# Altium footprint library Connector_Wire.PcbLib: 290 footprints (part 9 of 19)
Each footprint in its own frame and in the unit in brackets; x right, y up, seen from the top. Pads: shape width x height; smd on the part's side, far side on the other; paste and mask are expansions set on the pad; w line width, h text height; cw(c..) or ccw(c..) is an arc to the next point about the centre after c.
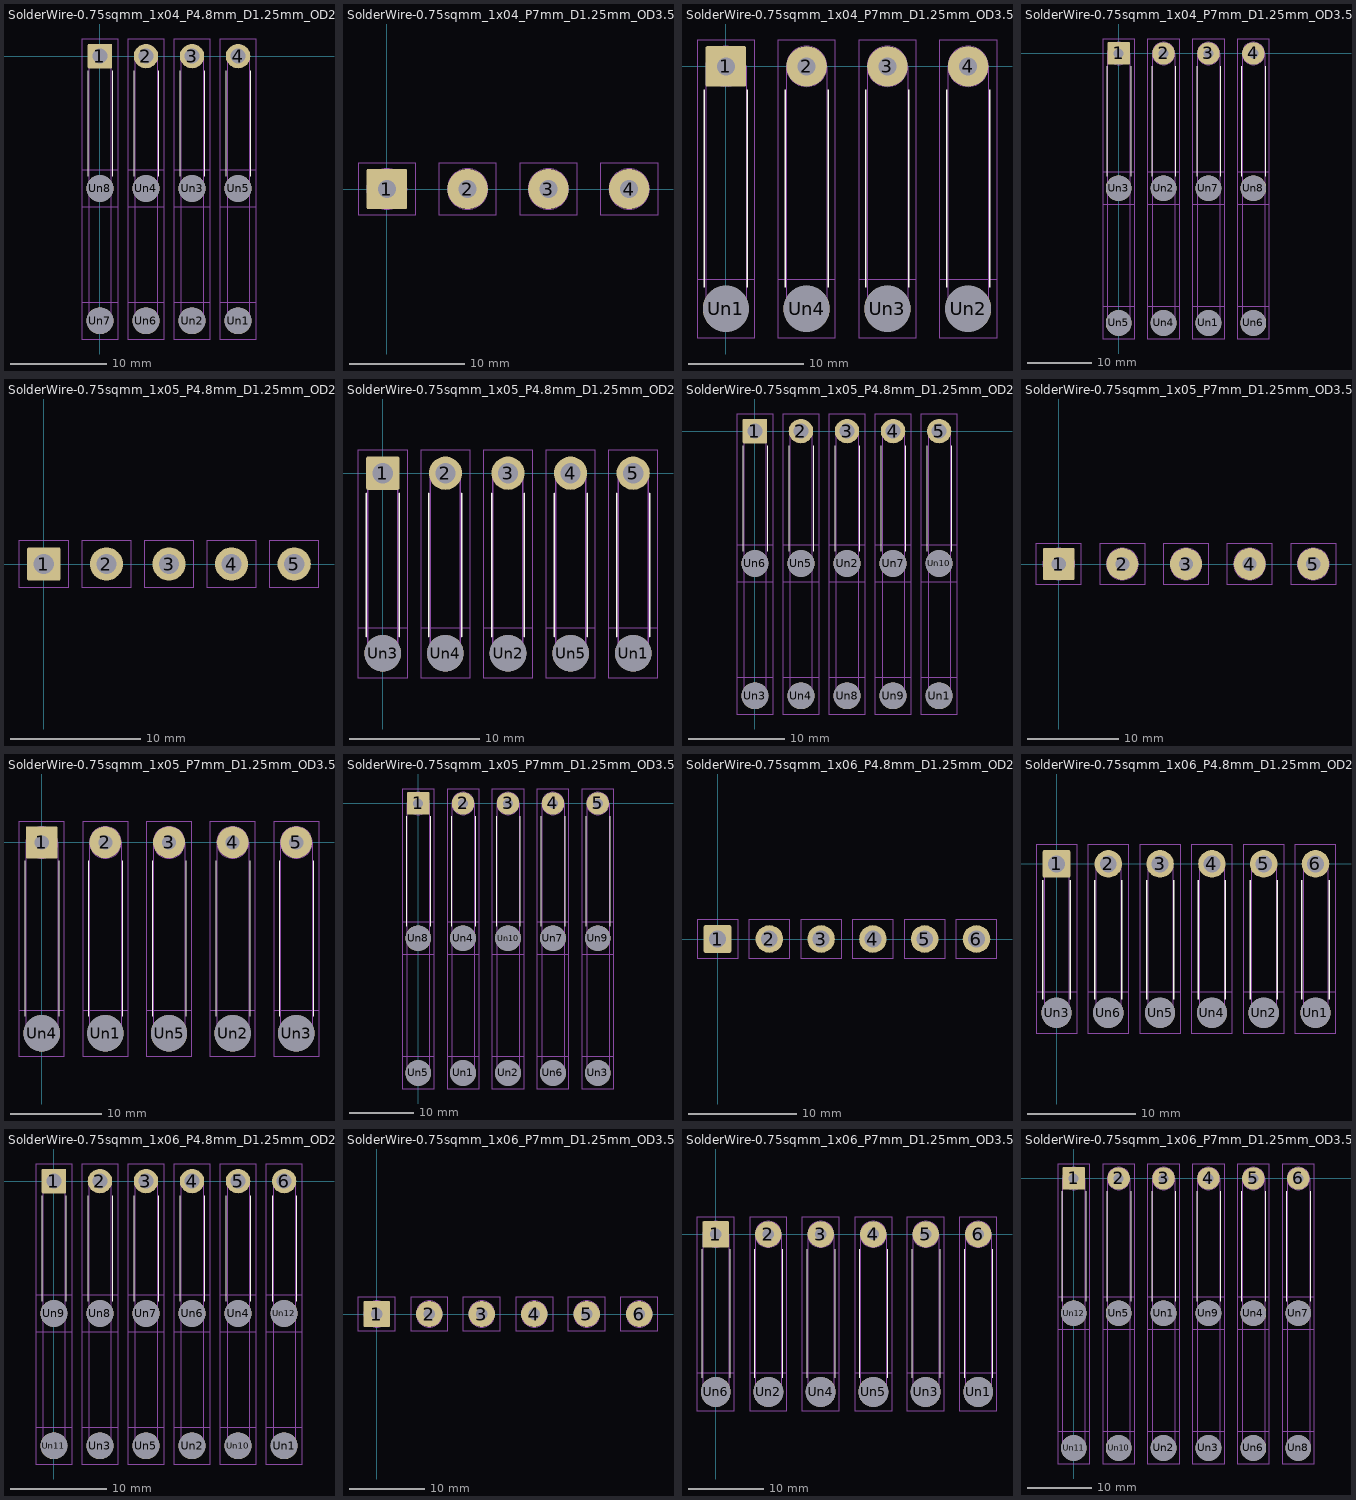
[diagram p8: the footprints below, top view; thin cyan lines are the x and y axes]

## SolderWire-0.75sqmm_1x04_P4.8mm_D1.25mm_OD2.3mm_Relief2x [mm]
pads (12):
  rrect10% 2.55x2.55 hole 1.55: 1(0,0)
  round 2.55 hole 1.55: 2(4.8,0) 3(9.6,0) 4(14.4,0)
  round 2.8 hole 2.8: Un1(14.4,-27.6) Un2(9.6,-27.6) Un3(9.6,-13.8) Un4(4.8,-13.8) Un5(14.4,-13.8) Un6(4.8,-27.6) Un7(0,-27.6) Un8(0,-13.8)
F.SilkS:
  lines w0.12: -1.26,-12.54 -1.26,-1.535 ; 1.26,-12.54 1.26,-1.535 ; 3.54,-12.54 3.54,-1.535 ; 6.06,-12.54 6.06,-1.535 ; 8.34,-12.54 8.34,-1.535 ; 10.86,-12.54 10.86,-1.535 ; 13.14,-12.54 13.14,-1.535 ; 15.66,-12.54 15.66,-1.535
B.SilkS:
  lines w0.12: -1.26,-26.34 -1.26,-15.06 ; 1.26,-26.34 1.26,-15.06 ; 3.54,-26.34 3.54,-15.06 ; 6.06,-26.34 6.06,-15.06 ; 8.34,-26.34 8.34,-15.06 ; 10.86,-26.34 10.86,-15.06 ; 13.14,-26.34 13.14,-15.06 ; 15.66,-26.34 15.66,-15.06
B.CrtYd:
  lines w0.05: -1.9,-29.5 1.9,-29.5 1.9,-11.9 -1.9,-11.9 -1.9,-29.5 ; 2.9,-29.5 6.7,-29.5 6.7,-11.9 2.9,-11.9 2.9,-29.5 ; 7.7,-29.5 11.5,-29.5 11.5,-11.9 7.7,-11.9 7.7,-29.5 ; 12.5,-29.5 12.5,-11.9 16.3,-11.9 16.3,-29.5 12.5,-29.5
F.CrtYd:
  lines w0.05: -1.9,-29.5 1.9,-29.5 1.9,-25.7 -1.9,-25.7 -1.9,-29.5 ; -1.9,-15.7 -1.9,1.78 1.9,1.78 1.9,-15.7 -1.9,-15.7 ; 2.9,-29.5 2.9,-25.7 6.7,-25.7 6.7,-29.5 2.9,-29.5 ; 2.9,-15.7 6.7,-15.7 6.7,1.78 2.9,1.78 2.9,-15.7 ; 7.7,-29.5 7.7,-25.7 11.5,-25.7 11.5,-29.5 7.7,-29.5 ; 7.7,-15.7 11.5,-15.7 11.5,1.78 7.7,1.78 7.7,-15.7 ; 12.5,-29.5 16.3,-29.5 16.3,-25.7 12.5,-25.7 12.5,-29.5 ; 12.5,-15.7 16.3,-15.7 16.3,1.78 12.5,1.78 12.5,-15.7
B.Fab:
  circle w0.1: c14.4,-27.6 r1.15
  circle w0.1: c0,-13.8 r1.15
  circle w0.1: c4.8,-13.8 r1.15
  circle w0.1: c14.4,-13.8 r1.15
  circle w0.1: c4.8,-27.6 r1.15
  circle w0.1: c9.6,-13.8 r1.15
  circle w0.1: c0,-27.6 r1.15
  circle w0.1: c9.6,-27.6 r1.15
  lines w0.1: -1.15,-27.6 -1.15,-13.8 ; 1.15,-27.6 1.15,-13.8 ; 3.65,-27.6 3.65,-13.8 ; 5.95,-27.6 5.95,-13.8 ; 8.45,-27.6 8.45,-13.8 ; 10.75,-27.6 10.75,-13.8 ; 13.25,-27.6 13.25,-13.8 ; 15.55,-27.6 15.55,-13.8
F.Fab:
  circle w0.1: c0,0 r1.15
  circle w0.1: c14.4,-27.6 r1.15
  circle w0.1: c0,-13.8 r1.15
  circle w0.1: c0,-27.6 r1.15
  circle w0.1: c9.6,-27.6 r1.15
  circle w0.1: c4.8,-13.8 r1.15
  circle w0.1: c4.8,0 r1.15
  circle w0.1: c14.4,0 r1.15
  circle w0.1: c4.8,-27.6 r1.15
  circle w0.1: c9.6,-13.8 r1.15
  circle w0.1: c14.4,-13.8 r1.15
  circle w0.1: c9.6,0 r1.15
  lines w0.1: -1.15,-13.8 -1.15,0 ; 1.15,-13.8 1.15,0 ; 3.65,-13.8 3.65,0 ; 5.95,-13.8 5.95,0 ; 8.45,-13.8 8.45,0 ; 10.75,-13.8 10.75,0 ; 13.25,-13.8 13.25,0 ; 15.55,-13.8 15.55,0
  text "'.Designator'" at 8.04,-10.947 h1

## SolderWire-0.75sqmm_1x04_P7mm_D1.25mm_OD3.5mm [mm]
pads (4):
  rrect7% 3.5x3.5 hole 1.55: 1(0,0)
  round 3.5 hole 1.55: 2(7,0) 3(14,0) 4(21,0)
F.CrtYd:
  lines w0.05: -2.5,-2.25 2.5,-2.25 2.5,2.25 -2.5,2.25 -2.5,-2.25 ; 4.5,-2.25 4.5,2.25 9.5,2.25 9.5,-2.25 4.5,-2.25 ; 11.5,-2.25 11.5,2.25 16.5,2.25 16.5,-2.25 11.5,-2.25 ; 18.5,-2.25 23.5,-2.25 23.5,2.25 18.5,2.25 18.5,-2.25
F.Fab:
  circle w0.1: c14,0 r1.75
  circle w0.1: c21,0 r1.75
  circle w0.1: c0,0 r1.75
  circle w0.1: c7,0 r1.75
  text "'.Designator'" at 11.34,-4.047 h1

## SolderWire-0.75sqmm_1x04_P7mm_D1.25mm_OD3.5mm_Relief [mm]
pads (8):
  rrect7% 3.5x3.5 hole 1.55: 1(0,0)
  round 3.5 hole 1.55: 2(7,0) 3(14,0) 4(21,0)
  round 4 hole 4: Un1(0,-21) Un2(21,-21) Un3(14,-21) Un4(7,-21)
F.SilkS:
  lines w0.12: -1.86,-19.14 -1.86,-2.01 ; 1.86,-19.14 1.86,-2.01 ; 5.14,-19.14 5.14,-2.01 ; 8.86,-19.14 8.86,-2.01 ; 12.14,-19.14 12.14,-2.01 ; 15.86,-19.14 15.86,-2.01 ; 19.14,-19.14 19.14,-2.01 ; 22.86,-19.14 22.86,-2.01
B.CrtYd:
  lines w0.05: -2.5,-23.5 -2.5,-18.5 2.5,-18.5 2.5,-23.5 -2.5,-23.5 ; 4.5,-23.5 4.5,-18.5 9.5,-18.5 9.5,-23.5 4.5,-23.5 ; 11.5,-23.5 16.5,-23.5 16.5,-18.5 11.5,-18.5 11.5,-23.5 ; 18.5,-23.5 23.5,-23.5 23.5,-18.5 18.5,-18.5 18.5,-23.5
F.CrtYd:
  lines w0.05: -2.5,-23.5 -2.5,2.25 2.5,2.25 2.5,-23.5 -2.5,-23.5 ; 4.5,-23.5 4.5,2.25 9.5,2.25 9.5,-23.5 4.5,-23.5 ; 11.5,-23.5 16.5,-23.5 16.5,2.25 11.5,2.25 11.5,-23.5 ; 18.5,-23.5 18.5,2.25 23.5,2.25 23.5,-23.5 18.5,-23.5
F.Fab:
  circle w0.1: c14,0 r1.75
  circle w0.1: c21,0 r1.75
  circle w0.1: c0,-21 r1.75
  circle w0.1: c21,-21 r1.75
  circle w0.1: c7,0 r1.75
  circle w0.1: c14,-21 r1.75
  circle w0.1: c7,-21 r1.75
  circle w0.1: c0,0 r1.75
  lines w0.1: -1.75,-21 -1.75,0 ; 1.75,-21 1.75,0 ; 5.25,-21 5.25,0 ; 8.75,-21 8.75,0 ; 12.25,-21 12.25,0 ; 15.75,-21 15.75,0 ; 19.25,-21 19.25,0 ; 22.75,-21 22.75,0
  text "'.Designator'" at 11.34,-14.547 h1

## SolderWire-0.75sqmm_1x04_P7mm_D1.25mm_OD3.5mm_Relief2x [mm]
pads (12):
  rrect7% 3.5x3.5 hole 1.55: 1(0,0)
  round 3.5 hole 1.55: 2(7,0) 3(14,0) 4(21,0)
  round 4 hole 4: Un1(14,-42) Un2(7,-21) Un3(0,-21) Un4(7,-42) Un5(0,-42) Un6(21,-42) Un7(14,-21) Un8(21,-21)
F.SilkS:
  lines w0.12: -1.86,-19.14 -1.86,-2.01 ; 1.86,-19.14 1.86,-2.01 ; 5.14,-19.14 5.14,-2.01 ; 8.86,-19.14 8.86,-2.01 ; 12.14,-19.14 12.14,-2.01 ; 15.86,-19.14 15.86,-2.01 ; 19.14,-19.14 19.14,-2.01 ; 22.86,-19.14 22.86,-2.01
B.SilkS:
  lines w0.12: -1.86,-40.14 -1.86,-22.86 ; 1.86,-40.14 1.86,-22.86 ; 5.14,-40.14 5.14,-22.86 ; 8.86,-40.14 8.86,-22.86 ; 12.14,-40.14 12.14,-22.86 ; 15.86,-40.14 15.86,-22.86 ; 19.14,-40.14 19.14,-22.86 ; 22.86,-40.14 22.86,-22.86
B.CrtYd:
  lines w0.05: -2.5,-44.5 -2.5,-18.5 2.5,-18.5 2.5,-44.5 -2.5,-44.5 ; 4.5,-44.5 4.5,-18.5 9.5,-18.5 9.5,-44.5 4.5,-44.5 ; 11.5,-44.5 11.5,-18.5 16.5,-18.5 16.5,-44.5 11.5,-44.5 ; 18.5,-44.5 18.5,-18.5 23.5,-18.5 23.5,-44.5 18.5,-44.5
F.CrtYd:
  lines w0.05: -2.5,-44.5 2.5,-44.5 2.5,-39.5 -2.5,-39.5 -2.5,-44.5 ; -2.5,-23.5 2.5,-23.5 2.5,2.25 -2.5,2.25 -2.5,-23.5 ; 4.5,-44.5 9.5,-44.5 9.5,-39.5 4.5,-39.5 4.5,-44.5 ; 4.5,-23.5 4.5,2.25 9.5,2.25 9.5,-23.5 4.5,-23.5 ; 11.5,-44.5 11.5,-39.5 16.5,-39.5 16.5,-44.5 11.5,-44.5 ; 11.5,-23.5 16.5,-23.5 16.5,2.25 11.5,2.25 11.5,-23.5 ; 18.5,-44.5 23.5,-44.5 23.5,-39.5 18.5,-39.5 18.5,-44.5 ; 18.5,-23.5 18.5,2.25 23.5,2.25 23.5,-23.5 18.5,-23.5
B.Fab:
  circle w0.1: c21,-21 r1.75
  circle w0.1: c7,-21 r1.75
  circle w0.1: c0,-21 r1.75
  circle w0.1: c0,-42 r1.75
  circle w0.1: c14,-42 r1.75
  circle w0.1: c7,-42 r1.75
  circle w0.1: c21,-42 r1.75
  circle w0.1: c14,-21 r1.75
  lines w0.1: -1.75,-42 -1.75,-21 ; 1.75,-42 1.75,-21 ; 5.25,-42 5.25,-21 ; 8.75,-42 8.75,-21 ; 12.25,-42 12.25,-21 ; 15.75,-42 15.75,-21 ; 19.25,-42 19.25,-21 ; 22.75,-42 22.75,-21
F.Fab:
  circle w0.1: c21,-21 r1.75
  circle w0.1: c7,-42 r1.75
  circle w0.1: c21,-42 r1.75
  circle w0.1: c14,-21 r1.75
  circle w0.1: c0,0 r1.75
  circle w0.1: c14,0 r1.75
  circle w0.1: c21,0 r1.75
  circle w0.1: c0,-42 r1.75
  circle w0.1: c7,-21 r1.75
  circle w0.1: c14,-42 r1.75
  circle w0.1: c7,0 r1.75
  circle w0.1: c0,-21 r1.75
  lines w0.1: -1.75,-21 -1.75,0 ; 1.75,-21 1.75,0 ; 5.25,-21 5.25,0 ; 8.75,-21 8.75,0 ; 12.25,-21 12.25,0 ; 15.75,-21 15.75,0 ; 19.25,-21 19.25,0 ; 22.75,-21 22.75,0
  text "'.Designator'" at 11.34,-14.547 h1

## SolderWire-0.75sqmm_1x05_P4.8mm_D1.25mm_OD2.3mm [mm]
pads (5):
  rrect10% 2.55x2.55 hole 1.55: 1(0,0)
  round 2.55 hole 1.55: 2(4.8,0) 3(9.6,0) 4(14.4,0) 5(19.2,0)
F.CrtYd:
  lines w0.05: -1.9,-1.78 1.9,-1.78 1.9,1.78 -1.9,1.78 -1.9,-1.78 ; 2.9,-1.78 6.7,-1.78 6.7,1.78 2.9,1.78 2.9,-1.78 ; 7.7,-1.78 11.5,-1.78 11.5,1.78 7.7,1.78 7.7,-1.78 ; 12.5,-1.78 12.5,1.78 16.3,1.78 16.3,-1.78 12.5,-1.78 ; 17.3,-1.78 21.1,-1.78 21.1,1.78 17.3,1.78 17.3,-1.78
F.Fab:
  circle w0.1: c0,0 r1.15
  circle w0.1: c19.2,0 r1.15
  circle w0.1: c9.6,0 r1.15
  circle w0.1: c4.8,0 r1.15
  circle w0.1: c14.4,0 r1.15
  text "'.Designator'" at 7.25,-0.49 h0.58

## SolderWire-0.75sqmm_1x05_P4.8mm_D1.25mm_OD2.3mm_Relief [mm]
pads (10):
  rrect10% 2.55x2.55 hole 1.55: 1(0,0)
  round 2.55 hole 1.55: 2(4.8,0) 3(9.6,0) 4(14.4,0) 5(19.2,0)
  round 2.8 hole 2.8: Un1(19.2,-13.8) Un2(9.6,-13.8) Un3(0,-13.8) Un4(4.8,-13.8) Un5(14.4,-13.8)
F.SilkS:
  lines w0.12: -1.26,-12.54 -1.26,-1.535 ; 1.26,-12.54 1.26,-1.535 ; 3.54,-12.54 3.54,-1.535 ; 6.06,-12.54 6.06,-1.535 ; 8.34,-12.54 8.34,-1.535 ; 10.86,-12.54 10.86,-1.535 ; 13.14,-12.54 13.14,-1.535 ; 15.66,-12.54 15.66,-1.535 ; 17.94,-12.54 17.94,-1.535 ; 20.46,-12.54 20.46,-1.535
B.CrtYd:
  lines w0.05: -1.9,-15.7 -1.9,-11.9 1.9,-11.9 1.9,-15.7 -1.9,-15.7 ; 2.9,-15.7 6.7,-15.7 6.7,-11.9 2.9,-11.9 2.9,-15.7 ; 7.7,-15.7 11.5,-15.7 11.5,-11.9 7.7,-11.9 7.7,-15.7 ; 12.5,-15.7 12.5,-11.9 16.3,-11.9 16.3,-15.7 12.5,-15.7 ; 17.3,-15.7 17.3,-11.9 21.1,-11.9 21.1,-15.7 17.3,-15.7
F.CrtYd:
  lines w0.05: -1.9,-15.7 1.9,-15.7 1.9,1.78 -1.9,1.78 -1.9,-15.7 ; 2.9,-15.7 6.7,-15.7 6.7,1.78 2.9,1.78 2.9,-15.7 ; 7.7,-15.7 7.7,1.78 11.5,1.78 11.5,-15.7 7.7,-15.7 ; 12.5,-15.7 12.5,1.78 16.3,1.78 16.3,-15.7 12.5,-15.7 ; 17.3,-15.7 21.1,-15.7 21.1,1.78 17.3,1.78 17.3,-15.7
F.Fab:
  circle w0.1: c9.6,0 r1.15
  circle w0.1: c9.6,-13.8 r1.15
  circle w0.1: c4.8,0 r1.15
  circle w0.1: c14.4,-13.8 r1.15
  circle w0.1: c0,0 r1.15
  circle w0.1: c4.8,-13.8 r1.15
  circle w0.1: c19.2,-13.8 r1.15
  circle w0.1: c0,-13.8 r1.15
  circle w0.1: c14.4,0 r1.15
  circle w0.1: c19.2,0 r1.15
  lines w0.1: -1.15,-13.8 -1.15,0 ; 1.15,-13.8 1.15,0 ; 3.65,-13.8 3.65,0 ; 5.95,-13.8 5.95,0 ; 8.45,-13.8 8.45,0 ; 10.75,-13.8 10.75,0 ; 13.25,-13.8 13.25,0 ; 15.55,-13.8 15.55,0 ; 18.05,-13.8 18.05,0 ; 20.35,-13.8 20.35,0
  text "'.Designator'" at 10.44,-10.947 h1

## SolderWire-0.75sqmm_1x05_P4.8mm_D1.25mm_OD2.3mm_Relief2x [mm]
pads (15):
  rrect10% 2.55x2.55 hole 1.55: 1(0,0)
  round 2.55 hole 1.55: 2(4.8,0) 3(9.6,0) 4(14.4,0) 5(19.2,0)
  round 2.8 hole 2.8: Un1(19.2,-27.6) Un2(9.6,-13.8) Un3(0,-27.6) Un4(4.8,-27.6) Un5(4.8,-13.8) Un6(0,-13.8) Un7(14.4,-13.8) Un8(9.6,-27.6) Un9(14.4,-27.6) Un10(19.2,-13.8)
F.SilkS:
  lines w0.12: -1.26,-12.54 -1.26,-1.535 ; 1.26,-12.54 1.26,-1.535 ; 3.54,-12.54 3.54,-1.535 ; 6.06,-12.54 6.06,-1.535 ; 8.34,-12.54 8.34,-1.535 ; 10.86,-12.54 10.86,-1.535 ; 13.14,-12.54 13.14,-1.535 ; 15.66,-12.54 15.66,-1.535 ; 17.94,-12.54 17.94,-1.535 ; 20.46,-12.54 20.46,-1.535
B.SilkS:
  lines w0.12: -1.26,-26.34 -1.26,-15.06 ; 1.26,-26.34 1.26,-15.06 ; 3.54,-26.34 3.54,-15.06 ; 6.06,-26.34 6.06,-15.06 ; 8.34,-26.34 8.34,-15.06 ; 10.86,-26.34 10.86,-15.06 ; 13.14,-26.34 13.14,-15.06 ; 15.66,-26.34 15.66,-15.06 ; 17.94,-26.34 17.94,-15.06 ; 20.46,-26.34 20.46,-15.06
B.CrtYd:
  lines w0.05: -1.9,-29.5 1.9,-29.5 1.9,-11.9 -1.9,-11.9 -1.9,-29.5 ; 2.9,-29.5 2.9,-11.9 6.7,-11.9 6.7,-29.5 2.9,-29.5 ; 7.7,-29.5 11.5,-29.5 11.5,-11.9 7.7,-11.9 7.7,-29.5 ; 12.5,-29.5 12.5,-11.9 16.3,-11.9 16.3,-29.5 12.5,-29.5 ; 17.3,-29.5 21.1,-29.5 21.1,-11.9 17.3,-11.9 17.3,-29.5
F.CrtYd:
  lines w0.05: -1.9,-29.5 1.9,-29.5 1.9,-25.7 -1.9,-25.7 -1.9,-29.5 ; -1.9,-15.7 -1.9,1.78 1.9,1.78 1.9,-15.7 -1.9,-15.7 ; 2.9,-29.5 2.9,-25.7 6.7,-25.7 6.7,-29.5 2.9,-29.5 ; 2.9,-15.7 2.9,1.78 6.7,1.78 6.7,-15.7 2.9,-15.7 ; 7.7,-29.5 11.5,-29.5 11.5,-25.7 7.7,-25.7 7.7,-29.5 ; 7.7,-15.7 7.7,1.78 11.5,1.78 11.5,-15.7 7.7,-15.7 ; 12.5,-29.5 16.3,-29.5 16.3,-25.7 12.5,-25.7 12.5,-29.5 ; 12.5,-15.7 16.3,-15.7 16.3,1.78 12.5,1.78 12.5,-15.7 ; 17.3,-29.5 21.1,-29.5 21.1,-25.7 17.3,-25.7 17.3,-29.5 ; 17.3,-15.7 17.3,1.78 21.1,1.78 21.1,-15.7 17.3,-15.7
B.Fab:
  circle w0.1: c0,-27.6 r1.15
  circle w0.1: c19.2,-13.8 r1.15
  circle w0.1: c4.8,-13.8 r1.15
  circle w0.1: c19.2,-27.6 r1.15
  circle w0.1: c14.4,-27.6 r1.15
  circle w0.1: c0,-13.8 r1.15
  circle w0.1: c9.6,-27.6 r1.15
  circle w0.1: c9.6,-13.8 r1.15
  circle w0.1: c14.4,-13.8 r1.15
  circle w0.1: c4.8,-27.6 r1.15
  lines w0.1: -1.15,-27.6 -1.15,-13.8 ; 1.15,-27.6 1.15,-13.8 ; 3.65,-27.6 3.65,-13.8 ; 5.95,-27.6 5.95,-13.8 ; 8.45,-27.6 8.45,-13.8 ; 10.75,-27.6 10.75,-13.8 ; 13.25,-27.6 13.25,-13.8 ; 15.55,-27.6 15.55,-13.8 ; 18.05,-27.6 18.05,-13.8 ; 20.35,-27.6 20.35,-13.8
F.Fab:
  circle w0.1: c14.4,-13.8 r1.15
  circle w0.1: c9.6,0 r1.15
  circle w0.1: c19.2,-13.8 r1.15
  circle w0.1: c14.4,0 r1.15
  circle w0.1: c4.8,-13.8 r1.15
  circle w0.1: c0,0 r1.15
  circle w0.1: c0,-13.8 r1.15
  circle w0.1: c4.8,0 r1.15
  circle w0.1: c9.6,-13.8 r1.15
  circle w0.1: c14.4,-27.6 r1.15
  circle w0.1: c4.8,-27.6 r1.15
  circle w0.1: c19.2,-27.6 r1.15
  circle w0.1: c9.6,-27.6 r1.15
  circle w0.1: c19.2,0 r1.15
  circle w0.1: c0,-27.6 r1.15
  lines w0.1: -1.15,-13.8 -1.15,0 ; 1.15,-13.8 1.15,0 ; 3.65,-13.8 3.65,0 ; 5.95,-13.8 5.95,0 ; 8.45,-13.8 8.45,0 ; 10.75,-13.8 10.75,0 ; 13.25,-13.8 13.25,0 ; 15.55,-13.8 15.55,0 ; 18.05,-13.8 18.05,0 ; 20.35,-13.8 20.35,0
  text "'.Designator'" at 10.44,-10.947 h1

## SolderWire-0.75sqmm_1x05_P7mm_D1.25mm_OD3.5mm [mm]
pads (5):
  rrect7% 3.5x3.5 hole 1.55: 1(0,0)
  round 3.5 hole 1.55: 2(7,0) 3(14,0) 4(21,0) 5(28,0)
F.CrtYd:
  lines w0.05: -2.5,-2.25 2.5,-2.25 2.5,2.25 -2.5,2.25 -2.5,-2.25 ; 4.5,-2.25 4.5,2.25 9.5,2.25 9.5,-2.25 4.5,-2.25 ; 11.5,-2.25 16.5,-2.25 16.5,2.25 11.5,2.25 11.5,-2.25 ; 18.5,-2.25 23.5,-2.25 23.5,2.25 18.5,2.25 18.5,-2.25 ; 25.5,-2.25 30.5,-2.25 30.5,2.25 25.5,2.25 25.5,-2.25
F.Fab:
  circle w0.1: c0,0 r1.75
  circle w0.1: c28,0 r1.75
  circle w0.1: c7,0 r1.75
  circle w0.1: c14,0 r1.75
  circle w0.1: c21,0 r1.75
  text "'.Designator'" at 10.441,-0.737 h0.88

## SolderWire-0.75sqmm_1x05_P7mm_D1.25mm_OD3.5mm_Relief [mm]
pads (10):
  rrect7% 3.5x3.5 hole 1.55: 1(0,0)
  round 3.5 hole 1.55: 2(7,0) 3(14,0) 4(21,0) 5(28,0)
  round 4 hole 4: Un1(7,-21) Un2(21,-21) Un3(28,-21) Un4(0,-21) Un5(14,-21)
F.SilkS:
  lines w0.12: -1.86,-19.14 -1.86,-2.01 ; 1.86,-19.14 1.86,-2.01 ; 5.14,-19.14 5.14,-2.01 ; 8.86,-19.14 8.86,-2.01 ; 12.14,-19.14 12.14,-2.01 ; 15.86,-19.14 15.86,-2.01 ; 19.14,-19.14 19.14,-2.01 ; 22.86,-19.14 22.86,-2.01 ; 26.14,-19.14 26.14,-2.01 ; 29.86,-19.14 29.86,-2.01
B.CrtYd:
  lines w0.05: -2.5,-23.5 -2.5,-18.5 2.5,-18.5 2.5,-23.5 -2.5,-23.5 ; 4.5,-23.5 9.5,-23.5 9.5,-18.5 4.5,-18.5 4.5,-23.5 ; 11.5,-23.5 11.5,-18.5 16.5,-18.5 16.5,-23.5 11.5,-23.5 ; 18.5,-23.5 18.5,-18.5 23.5,-18.5 23.5,-23.5 18.5,-23.5 ; 25.5,-23.5 30.5,-23.5 30.5,-18.5 25.5,-18.5 25.5,-23.5
F.CrtYd:
  lines w0.05: -2.5,-23.5 -2.5,2.25 2.5,2.25 2.5,-23.5 -2.5,-23.5 ; 4.5,-23.5 9.5,-23.5 9.5,2.25 4.5,2.25 4.5,-23.5 ; 11.5,-23.5 16.5,-23.5 16.5,2.25 11.5,2.25 11.5,-23.5 ; 18.5,-23.5 18.5,2.25 23.5,2.25 23.5,-23.5 18.5,-23.5 ; 25.5,-23.5 30.5,-23.5 30.5,2.25 25.5,2.25 25.5,-23.5
F.Fab:
  circle w0.1: c14,-21 r1.75
  circle w0.1: c0,-21 r1.75
  circle w0.1: c28,0 r1.75
  circle w0.1: c7,0 r1.75
  circle w0.1: c21,0 r1.75
  circle w0.1: c14,0 r1.75
  circle w0.1: c28,-21 r1.75
  circle w0.1: c21,-21 r1.75
  circle w0.1: c7,-21 r1.75
  circle w0.1: c0,0 r1.75
  lines w0.1: -1.75,-21 -1.75,0 ; 1.75,-21 1.75,0 ; 5.25,-21 5.25,0 ; 8.75,-21 8.75,0 ; 12.25,-21 12.25,0 ; 15.75,-21 15.75,0 ; 19.25,-21 19.25,0 ; 22.75,-21 22.75,0 ; 26.25,-21 26.25,0 ; 29.75,-21 29.75,0
  text "'.Designator'" at 14.84,-14.547 h1

## SolderWire-0.75sqmm_1x05_P7mm_D1.25mm_OD3.5mm_Relief2x [mm]
pads (15):
  rrect7% 3.5x3.5 hole 1.55: 1(0,0)
  round 3.5 hole 1.55: 2(7,0) 3(14,0) 4(21,0) 5(28,0)
  round 4 hole 4: Un1(7,-42) Un2(14,-42) Un3(28,-42) Un4(7,-21) Un5(0,-42) Un6(21,-42) Un7(21,-21) Un8(0,-21) Un9(28,-21) Un10(14,-21)
F.SilkS:
  lines w0.12: -1.86,-19.14 -1.86,-2.01 ; 1.86,-19.14 1.86,-2.01 ; 5.14,-19.14 5.14,-2.01 ; 8.86,-19.14 8.86,-2.01 ; 12.14,-19.14 12.14,-2.01 ; 15.86,-19.14 15.86,-2.01 ; 19.14,-19.14 19.14,-2.01 ; 22.86,-19.14 22.86,-2.01 ; 26.14,-19.14 26.14,-2.01 ; 29.86,-19.14 29.86,-2.01
B.SilkS:
  lines w0.12: -1.86,-40.14 -1.86,-22.86 ; 1.86,-40.14 1.86,-22.86 ; 5.14,-40.14 5.14,-22.86 ; 8.86,-40.14 8.86,-22.86 ; 12.14,-40.14 12.14,-22.86 ; 15.86,-40.14 15.86,-22.86 ; 19.14,-40.14 19.14,-22.86 ; 22.86,-40.14 22.86,-22.86 ; 26.14,-40.14 26.14,-22.86 ; 29.86,-40.14 29.86,-22.86
B.CrtYd:
  lines w0.05: -2.5,-44.5 -2.5,-18.5 2.5,-18.5 2.5,-44.5 -2.5,-44.5 ; 4.5,-44.5 9.5,-44.5 9.5,-18.5 4.5,-18.5 4.5,-44.5 ; 11.5,-44.5 16.5,-44.5 16.5,-18.5 11.5,-18.5 11.5,-44.5 ; 18.5,-44.5 18.5,-18.5 23.5,-18.5 23.5,-44.5 18.5,-44.5 ; 25.5,-44.5 30.5,-44.5 30.5,-18.5 25.5,-18.5 25.5,-44.5
F.CrtYd:
  lines w0.05: -2.5,-44.5 2.5,-44.5 2.5,-39.5 -2.5,-39.5 -2.5,-44.5 ; -2.5,-23.5 -2.5,2.25 2.5,2.25 2.5,-23.5 -2.5,-23.5 ; 4.5,-44.5 4.5,-39.5 9.5,-39.5 9.5,-44.5 4.5,-44.5 ; 4.5,-23.5 9.5,-23.5 9.5,2.25 4.5,2.25 4.5,-23.5 ; 11.5,-44.5 11.5,-39.5 16.5,-39.5 16.5,-44.5 11.5,-44.5 ; 11.5,-23.5 16.5,-23.5 16.5,2.25 11.5,2.25 11.5,-23.5 ; 18.5,-44.5 23.5,-44.5 23.5,-39.5 18.5,-39.5 18.5,-44.5 ; 18.5,-23.5 23.5,-23.5 23.5,2.25 18.5,2.25 18.5,-23.5 ; 25.5,-44.5 30.5,-44.5 30.5,-39.5 25.5,-39.5 25.5,-44.5 ; 25.5,-23.5 30.5,-23.5 30.5,2.25 25.5,2.25 25.5,-23.5
B.Fab:
  circle w0.1: c0,-21 r1.75
  circle w0.1: c21,-42 r1.75
  circle w0.1: c7,-42 r1.75
  circle w0.1: c7,-21 r1.75
  circle w0.1: c21,-21 r1.75
  circle w0.1: c14,-21 r1.75
  circle w0.1: c28,-21 r1.75
  circle w0.1: c0,-42 r1.75
  circle w0.1: c14,-42 r1.75
  circle w0.1: c28,-42 r1.75
  lines w0.1: -1.75,-42 -1.75,-21 ; 1.75,-42 1.75,-21 ; 5.25,-42 5.25,-21 ; 8.75,-42 8.75,-21 ; 12.25,-42 12.25,-21 ; 15.75,-42 15.75,-21 ; 19.25,-42 19.25,-21 ; 22.75,-42 22.75,-21 ; 26.25,-42 26.25,-21 ; 29.75,-42 29.75,-21
F.Fab:
  circle w0.1: c0,0 r1.75
  circle w0.1: c14,-21 r1.75
  circle w0.1: c0,-42 r1.75
  circle w0.1: c28,-21 r1.75
  circle w0.1: c21,-21 r1.75
  circle w0.1: c0,-21 r1.75
  circle w0.1: c14,-42 r1.75
  circle w0.1: c21,-42 r1.75
  circle w0.1: c28,-42 r1.75
  circle w0.1: c21,0 r1.75
  circle w0.1: c7,-21 r1.75
  circle w0.1: c14,0 r1.75
  circle w0.1: c28,0 r1.75
  circle w0.1: c7,-42 r1.75
  circle w0.1: c7,0 r1.75
  lines w0.1: -1.75,-21 -1.75,0 ; 1.75,-21 1.75,0 ; 5.25,-21 5.25,0 ; 8.75,-21 8.75,0 ; 12.25,-21 12.25,0 ; 15.75,-21 15.75,0 ; 19.25,-21 19.25,0 ; 22.75,-21 22.75,0 ; 26.25,-21 26.25,0 ; 29.75,-21 29.75,0
  text "'.Designator'" at 14.84,-14.547 h1

## SolderWire-0.75sqmm_1x06_P4.8mm_D1.25mm_OD2.3mm [mm]
pads (6):
  rrect10% 2.55x2.55 hole 1.55: 1(0,0)
  round 2.55 hole 1.55: 2(4.8,0) 3(9.6,0) 4(14.4,0) 5(19.2,0) 6(24,0)
F.CrtYd:
  lines w0.05: -1.9,-1.78 -1.9,1.78 1.9,1.78 1.9,-1.78 -1.9,-1.78 ; 2.9,-1.78 6.7,-1.78 6.7,1.78 2.9,1.78 2.9,-1.78 ; 7.7,-1.78 7.7,1.78 11.5,1.78 11.5,-1.78 7.7,-1.78 ; 12.5,-1.78 12.5,1.78 16.3,1.78 16.3,-1.78 12.5,-1.78 ; 17.3,-1.78 21.1,-1.78 21.1,1.78 17.3,1.78 17.3,-1.78 ; 22.1,-1.78 25.9,-1.78 25.9,1.78 22.1,1.78 22.1,-1.78
F.Fab:
  circle w0.1: c4.8,0 r1.15
  circle w0.1: c24,0 r1.15
  circle w0.1: c19.2,0 r1.15
  circle w0.1: c14.4,0 r1.15
  circle w0.1: c0,0 r1.15
  circle w0.1: c9.6,0 r1.15
  text "'.Designator'" at 12.744,-3.598 h0.89

## SolderWire-0.75sqmm_1x06_P4.8mm_D1.25mm_OD2.3mm_Relief [mm]
pads (12):
  rrect10% 2.55x2.55 hole 1.55: 1(0,0)
  round 2.55 hole 1.55: 2(4.8,0) 3(9.6,0) 4(14.4,0) 5(19.2,0) 6(24,0)
  round 2.8 hole 2.8: Un1(24,-13.8) Un2(19.2,-13.8) Un3(0,-13.8) Un4(14.4,-13.8) Un5(9.6,-13.8) Un6(4.8,-13.8)
F.SilkS:
  lines w0.12: -1.26,-12.54 -1.26,-1.535 ; 1.26,-12.54 1.26,-1.535 ; 3.54,-12.54 3.54,-1.535 ; 6.06,-12.54 6.06,-1.535 ; 8.34,-12.54 8.34,-1.535 ; 10.86,-12.54 10.86,-1.535 ; 13.14,-12.54 13.14,-1.535 ; 15.66,-12.54 15.66,-1.535 ; 17.94,-12.54 17.94,-1.535 ; 20.46,-12.54 20.46,-1.535 ; 22.74,-12.54 22.74,-1.535 ; 25.26,-12.54 25.26,-1.535
B.CrtYd:
  lines w0.05: -1.9,-15.7 1.9,-15.7 1.9,-11.9 -1.9,-11.9 -1.9,-15.7 ; 2.9,-15.7 2.9,-11.9 6.7,-11.9 6.7,-15.7 2.9,-15.7 ; 7.7,-15.7 11.5,-15.7 11.5,-11.9 7.7,-11.9 7.7,-15.7 ; 12.5,-15.7 12.5,-11.9 16.3,-11.9 16.3,-15.7 12.5,-15.7 ; 17.3,-15.7 17.3,-11.9 21.1,-11.9 21.1,-15.7 17.3,-15.7 ; 22.1,-15.7 25.9,-15.7 25.9,-11.9 22.1,-11.9 22.1,-15.7
F.CrtYd:
  lines w0.05: -1.9,-15.7 1.9,-15.7 1.9,1.78 -1.9,1.78 -1.9,-15.7 ; 2.9,-15.7 2.9,1.78 6.7,1.78 6.7,-15.7 2.9,-15.7 ; 7.7,-15.7 7.7,1.78 11.5,1.78 11.5,-15.7 7.7,-15.7 ; 12.5,-15.7 16.3,-15.7 16.3,1.78 12.5,1.78 12.5,-15.7 ; 17.3,-15.7 21.1,-15.7 21.1,1.78 17.3,1.78 17.3,-15.7 ; 22.1,-15.7 25.9,-15.7 25.9,1.78 22.1,1.78 22.1,-15.7
F.Fab:
  circle w0.1: c0,0 r1.15
  circle w0.1: c9.6,0 r1.15
  circle w0.1: c24,0 r1.15
  circle w0.1: c4.8,0 r1.15
  circle w0.1: c19.2,0 r1.15
  circle w0.1: c4.8,-13.8 r1.15
  circle w0.1: c24,-13.8 r1.15
  circle w0.1: c9.6,-13.8 r1.15
  circle w0.1: c0,-13.8 r1.15
  circle w0.1: c19.2,-13.8 r1.15
  circle w0.1: c14.4,-13.8 r1.15
  circle w0.1: c14.4,0 r1.15
  lines w0.1: -1.15,-13.8 -1.15,0 ; 1.15,-13.8 1.15,0 ; 3.65,-13.8 3.65,0 ; 5.95,-13.8 5.95,0 ; 8.45,-13.8 8.45,0 ; 10.75,-13.8 10.75,0 ; 13.25,-13.8 13.25,0 ; 15.55,-13.8 15.55,0 ; 18.05,-13.8 18.05,0 ; 20.35,-13.8 20.35,0 ; 22.85,-13.8 22.85,0 ; 25.15,-13.8 25.15,0
  text "'.Designator'" at 12.84,-10.947 h1

## SolderWire-0.75sqmm_1x06_P4.8mm_D1.25mm_OD2.3mm_Relief2x [mm]
pads (18):
  rrect10% 2.55x2.55 hole 1.55: 1(0,0)
  round 2.55 hole 1.55: 2(4.8,0) 3(9.6,0) 4(14.4,0) 5(19.2,0) 6(24,0)
  round 2.8 hole 2.8: Un1(24,-27.6) Un2(14.4,-27.6) Un3(4.8,-27.6) Un4(19.2,-13.8) Un5(9.6,-27.6) Un6(14.4,-13.8) Un7(9.6,-13.8) Un8(4.8,-13.8) Un9(0,-13.8) Un10(19.2,-27.6) Un11(0,-27.6) Un12(24,-13.8)
F.SilkS:
  lines w0.12: -1.26,-12.54 -1.26,-1.535 ; 1.26,-12.54 1.26,-1.535 ; 3.54,-12.54 3.54,-1.535 ; 6.06,-12.54 6.06,-1.535 ; 8.34,-12.54 8.34,-1.535 ; 10.86,-12.54 10.86,-1.535 ; 13.14,-12.54 13.14,-1.535 ; 15.66,-12.54 15.66,-1.535 ; 17.94,-12.54 17.94,-1.535 ; 20.46,-12.54 20.46,-1.535 ; 22.74,-12.54 22.74,-1.535 ; 25.26,-12.54 25.26,-1.535
B.SilkS:
  lines w0.12: -1.26,-26.34 -1.26,-15.06 ; 1.26,-26.34 1.26,-15.06 ; 3.54,-26.34 3.54,-15.06 ; 6.06,-26.34 6.06,-15.06 ; 8.34,-26.34 8.34,-15.06 ; 10.86,-26.34 10.86,-15.06 ; 13.14,-26.34 13.14,-15.06 ; 15.66,-26.34 15.66,-15.06 ; 17.94,-26.34 17.94,-15.06 ; 20.46,-26.34 20.46,-15.06 ; 22.74,-26.34 22.74,-15.06 ; 25.26,-26.34 25.26,-15.06
B.CrtYd:
  lines w0.05: -1.9,-29.5 1.9,-29.5 1.9,-11.9 -1.9,-11.9 -1.9,-29.5 ; 2.9,-29.5 6.7,-29.5 6.7,-11.9 2.9,-11.9 2.9,-29.5 ; 7.7,-29.5 7.7,-11.9 11.5,-11.9 11.5,-29.5 7.7,-29.5 ; 12.5,-29.5 16.3,-29.5 16.3,-11.9 12.5,-11.9 12.5,-29.5 ; 17.3,-29.5 17.3,-11.9 21.1,-11.9 21.1,-29.5 17.3,-29.5 ; 22.1,-29.5 22.1,-11.9 25.9,-11.9 25.9,-29.5 22.1,-29.5
F.CrtYd:
  lines w0.05: -1.9,-29.5 -1.9,-25.7 1.9,-25.7 1.9,-29.5 -1.9,-29.5 ; -1.9,-15.7 1.9,-15.7 1.9,1.78 -1.9,1.78 -1.9,-15.7 ; 2.9,-29.5 2.9,-25.7 6.7,-25.7 6.7,-29.5 2.9,-29.5 ; 2.9,-15.7 6.7,-15.7 6.7,1.78 2.9,1.78 2.9,-15.7 ; 7.7,-29.5 11.5,-29.5 11.5,-25.7 7.7,-25.7 7.7,-29.5 ; 7.7,-15.7 7.7,1.78 11.5,1.78 11.5,-15.7 7.7,-15.7 ; 12.5,-29.5 12.5,-25.7 16.3,-25.7 16.3,-29.5 12.5,-29.5 ; 12.5,-15.7 16.3,-15.7 16.3,1.78 12.5,1.78 12.5,-15.7 ; 17.3,-29.5 17.3,-25.7 21.1,-25.7 21.1,-29.5 17.3,-29.5 ; 17.3,-15.7 21.1,-15.7 21.1,1.78 17.3,1.78 17.3,-15.7 ; 22.1,-29.5 22.1,-25.7 25.9,-25.7 25.9,-29.5 22.1,-29.5 ; 22.1,-15.7 25.9,-15.7 25.9,1.78 22.1,1.78 22.1,-15.7
B.Fab:
  circle w0.1: c24,-13.8 r1.15
  circle w0.1: c4.8,-27.6 r1.15
  circle w0.1: c19.2,-13.8 r1.15
  circle w0.1: c0,-27.6 r1.15
  circle w0.1: c14.4,-27.6 r1.15
  circle w0.1: c4.8,-13.8 r1.15
  circle w0.1: c0,-13.8 r1.15
  circle w0.1: c9.6,-13.8 r1.15
  circle w0.1: c14.4,-13.8 r1.15
  circle w0.1: c24,-27.6 r1.15
  circle w0.1: c9.6,-27.6 r1.15
  circle w0.1: c19.2,-27.6 r1.15
  lines w0.1: -1.15,-27.6 -1.15,-13.8 ; 1.15,-27.6 1.15,-13.8 ; 3.65,-27.6 3.65,-13.8 ; 5.95,-27.6 5.95,-13.8 ; 8.45,-27.6 8.45,-13.8 ; 10.75,-27.6 10.75,-13.8 ; 13.25,-27.6 13.25,-13.8 ; 15.55,-27.6 15.55,-13.8 ; 18.05,-27.6 18.05,-13.8 ; 20.35,-27.6 20.35,-13.8 ; 22.85,-27.6 22.85,-13.8 ; 25.15,-27.6 25.15,-13.8
F.Fab:
  circle w0.1: c0,-13.8 r1.15
  circle w0.1: c19.2,-27.6 r1.15
  circle w0.1: c19.2,0 r1.15
  circle w0.1: c24,-27.6 r1.15
  circle w0.1: c19.2,-13.8 r1.15
  circle w0.1: c14.4,-27.6 r1.15
  circle w0.1: c14.4,-13.8 r1.15
  circle w0.1: c24,0 r1.15
  circle w0.1: c4.8,-13.8 r1.15
  circle w0.1: c14.4,0 r1.15
  circle w0.1: c4.8,0 r1.15
  circle w0.1: c9.6,0 r1.15
  circle w0.1: c4.8,-27.6 r1.15
  circle w0.1: c0,0 r1.15
  circle w0.1: c0,-27.6 r1.15
  circle w0.1: c9.6,-13.8 r1.15
  circle w0.1: c9.6,-27.6 r1.15
  circle w0.1: c24,-13.8 r1.15
  lines w0.1: -1.15,-13.8 -1.15,0 ; 1.15,-13.8 1.15,0 ; 3.65,-13.8 3.65,0 ; 5.95,-13.8 5.95,0 ; 8.45,-13.8 8.45,0 ; 10.75,-13.8 10.75,0 ; 13.25,-13.8 13.25,0 ; 15.55,-13.8 15.55,0 ; 18.05,-13.8 18.05,0 ; 20.35,-13.8 20.35,0 ; 22.85,-13.8 22.85,0 ; 25.15,-13.8 25.15,0
  text "'.Designator'" at 12.84,-10.947 h1

## SolderWire-0.75sqmm_1x06_P7mm_D1.25mm_OD3.5mm [mm]
pads (6):
  rrect7% 3.5x3.5 hole 1.55: 1(0,0)
  round 3.5 hole 1.55: 2(7,0) 3(14,0) 4(21,0) 5(28,0) 6(35,0)
F.CrtYd:
  lines w0.05: -2.5,-2.25 -2.5,2.25 2.5,2.25 2.5,-2.25 -2.5,-2.25 ; 4.5,-2.25 4.5,2.25 9.5,2.25 9.5,-2.25 4.5,-2.25 ; 11.5,-2.25 16.5,-2.25 16.5,2.25 11.5,2.25 11.5,-2.25 ; 18.5,-2.25 18.5,2.25 23.5,2.25 23.5,-2.25 18.5,-2.25 ; 25.5,-2.25 25.5,2.25 30.5,2.25 30.5,-2.25 25.5,-2.25 ; 32.5,-2.25 37.5,-2.25 37.5,2.25 32.5,2.25 32.5,-2.25
F.Fab:
  circle w0.1: c14,0 r1.75
  circle w0.1: c35,0 r1.75
  circle w0.1: c28,0 r1.75
  circle w0.1: c0,0 r1.75
  circle w0.1: c21,0 r1.75
  circle w0.1: c7,0 r1.75
  text "'.Designator'" at 18.34,-4.047 h1

## SolderWire-0.75sqmm_1x06_P7mm_D1.25mm_OD3.5mm_Relief [mm]
pads (12):
  rrect7% 3.5x3.5 hole 1.55: 1(0,0)
  round 3.5 hole 1.55: 2(7,0) 3(14,0) 4(21,0) 5(28,0) 6(35,0)
  round 4 hole 4: Un1(35,-21) Un2(7,-21) Un3(28,-21) Un4(14,-21) Un5(21,-21) Un6(0,-21)
F.SilkS:
  lines w0.12: -1.86,-19.14 -1.86,-2.01 ; 1.86,-19.14 1.86,-2.01 ; 5.14,-19.14 5.14,-2.01 ; 8.86,-19.14 8.86,-2.01 ; 12.14,-19.14 12.14,-2.01 ; 15.86,-19.14 15.86,-2.01 ; 19.14,-19.14 19.14,-2.01 ; 22.86,-19.14 22.86,-2.01 ; 26.14,-19.14 26.14,-2.01 ; 29.86,-19.14 29.86,-2.01 ; 33.14,-19.14 33.14,-2.01 ; 36.86,-19.14 36.86,-2.01
B.CrtYd:
  lines w0.05: -2.5,-23.5 2.5,-23.5 2.5,-18.5 -2.5,-18.5 -2.5,-23.5 ; 4.5,-23.5 9.5,-23.5 9.5,-18.5 4.5,-18.5 4.5,-23.5 ; 11.5,-23.5 16.5,-23.5 16.5,-18.5 11.5,-18.5 11.5,-23.5 ; 18.5,-23.5 18.5,-18.5 23.5,-18.5 23.5,-23.5 18.5,-23.5 ; 25.5,-23.5 30.5,-23.5 30.5,-18.5 25.5,-18.5 25.5,-23.5 ; 32.5,-23.5 32.5,-18.5 37.5,-18.5 37.5,-23.5 32.5,-23.5
F.CrtYd:
  lines w0.05: -2.5,-23.5 -2.5,2.25 2.5,2.25 2.5,-23.5 -2.5,-23.5 ; 4.5,-23.5 4.5,2.25 9.5,2.25 9.5,-23.5 4.5,-23.5 ; 11.5,-23.5 16.5,-23.5 16.5,2.25 11.5,2.25 11.5,-23.5 ; 18.5,-23.5 18.5,2.25 23.5,2.25 23.5,-23.5 18.5,-23.5 ; 25.5,-23.5 30.5,-23.5 30.5,2.25 25.5,2.25 25.5,-23.5 ; 32.5,-23.5 37.5,-23.5 37.5,2.25 32.5,2.25 32.5,-23.5
F.Fab:
  circle w0.1: c7,-21 r1.75
  circle w0.1: c0,0 r1.75
  circle w0.1: c21,0 r1.75
  circle w0.1: c28,-21 r1.75
  circle w0.1: c21,-21 r1.75
  circle w0.1: c35,-21 r1.75
  circle w0.1: c35,0 r1.75
  circle w0.1: c14,0 r1.75
  circle w0.1: c28,0 r1.75
  circle w0.1: c7,0 r1.75
  circle w0.1: c0,-21 r1.75
  circle w0.1: c14,-21 r1.75
  lines w0.1: -1.75,-21 -1.75,0 ; 1.75,-21 1.75,0 ; 5.25,-21 5.25,0 ; 8.75,-21 8.75,0 ; 12.25,-21 12.25,0 ; 15.75,-21 15.75,0 ; 19.25,-21 19.25,0 ; 22.75,-21 22.75,0 ; 26.25,-21 26.25,0 ; 29.75,-21 29.75,0 ; 33.25,-21 33.25,0 ; 36.75,-21 36.75,0
  text "'.Designator'" at 18.34,-14.547 h1

## SolderWire-0.75sqmm_1x06_P7mm_D1.25mm_OD3.5mm_Relief2x [mm]
pads (18):
  rrect7% 3.5x3.5 hole 1.55: 1(0,0)
  round 3.5 hole 1.55: 2(7,0) 3(14,0) 4(21,0) 5(28,0) 6(35,0)
  round 4 hole 4: Un1(14,-21) Un2(14,-42) Un3(21,-42) Un4(28,-21) Un5(7,-21) Un6(28,-42) Un7(35,-21) Un8(35,-42) Un9(21,-21) Un10(7,-42) Un11(0,-42) Un12(0,-21)
F.SilkS:
  lines w0.12: -1.86,-19.14 -1.86,-2.01 ; 1.86,-19.14 1.86,-2.01 ; 5.14,-19.14 5.14,-2.01 ; 8.86,-19.14 8.86,-2.01 ; 12.14,-19.14 12.14,-2.01 ; 15.86,-19.14 15.86,-2.01 ; 19.14,-19.14 19.14,-2.01 ; 22.86,-19.14 22.86,-2.01 ; 26.14,-19.14 26.14,-2.01 ; 29.86,-19.14 29.86,-2.01 ; 33.14,-19.14 33.14,-2.01 ; 36.86,-19.14 36.86,-2.01
B.SilkS:
  lines w0.12: -1.86,-40.14 -1.86,-22.86 ; 1.86,-40.14 1.86,-22.86 ; 5.14,-40.14 5.14,-22.86 ; 8.86,-40.14 8.86,-22.86 ; 12.14,-40.14 12.14,-22.86 ; 15.86,-40.14 15.86,-22.86 ; 19.14,-40.14 19.14,-22.86 ; 22.86,-40.14 22.86,-22.86 ; 26.14,-40.14 26.14,-22.86 ; 29.86,-40.14 29.86,-22.86 ; 33.14,-40.14 33.14,-22.86 ; 36.86,-40.14 36.86,-22.86
B.CrtYd:
  lines w0.05: -2.5,-44.5 -2.5,-18.5 2.5,-18.5 2.5,-44.5 -2.5,-44.5 ; 4.5,-44.5 4.5,-18.5 9.5,-18.5 9.5,-44.5 4.5,-44.5 ; 11.5,-44.5 11.5,-18.5 16.5,-18.5 16.5,-44.5 11.5,-44.5 ; 18.5,-44.5 23.5,-44.5 23.5,-18.5 18.5,-18.5 18.5,-44.5 ; 25.5,-44.5 25.5,-18.5 30.5,-18.5 30.5,-44.5 25.5,-44.5 ; 32.5,-44.5 37.5,-44.5 37.5,-18.5 32.5,-18.5 32.5,-44.5
F.CrtYd:
  lines w0.05: -2.5,-44.5 2.5,-44.5 2.5,-39.5 -2.5,-39.5 -2.5,-44.5 ; -2.5,-23.5 2.5,-23.5 2.5,2.25 -2.5,2.25 -2.5,-23.5 ; 4.5,-44.5 4.5,-39.5 9.5,-39.5 9.5,-44.5 4.5,-44.5 ; 4.5,-23.5 4.5,2.25 9.5,2.25 9.5,-23.5 4.5,-23.5 ; 11.5,-44.5 11.5,-39.5 16.5,-39.5 16.5,-44.5 11.5,-44.5 ; 11.5,-23.5 16.5,-23.5 16.5,2.25 11.5,2.25 11.5,-23.5 ; 18.5,-44.5 23.5,-44.5 23.5,-39.5 18.5,-39.5 18.5,-44.5 ; 18.5,-23.5 23.5,-23.5 23.5,2.25 18.5,2.25 18.5,-23.5 ; 25.5,-44.5 30.5,-44.5 30.5,-39.5 25.5,-39.5 25.5,-44.5 ; 25.5,-23.5 30.5,-23.5 30.5,2.25 25.5,2.25 25.5,-23.5 ; 32.5,-44.5 32.5,-39.5 37.5,-39.5 37.5,-44.5 32.5,-44.5 ; 32.5,-23.5 37.5,-23.5 37.5,2.25 32.5,2.25 32.5,-23.5
B.Fab:
  circle w0.1: c28,-21 r1.75
  circle w0.1: c35,-21 r1.75
  circle w0.1: c7,-21 r1.75
  circle w0.1: c28,-42 r1.75
  circle w0.1: c21,-42 r1.75
  circle w0.1: c0,-42 r1.75
  circle w0.1: c21,-21 r1.75
  circle w0.1: c14,-42 r1.75
  circle w0.1: c0,-21 r1.75
  circle w0.1: c7,-42 r1.75
  circle w0.1: c14,-21 r1.75
  circle w0.1: c35,-42 r1.75
  lines w0.1: -1.75,-42 -1.75,-21 ; 1.75,-42 1.75,-21 ; 5.25,-42 5.25,-21 ; 8.75,-42 8.75,-21 ; 12.25,-42 12.25,-21 ; 15.75,-42 15.75,-21 ; 19.25,-42 19.25,-21 ; 22.75,-42 22.75,-21 ; 26.25,-42 26.25,-21 ; 29.75,-42 29.75,-21 ; 33.25,-42 33.25,-21 ; 36.75,-42 36.75,-21
F.Fab:
  circle w0.1: c0,-42 r1.75
  circle w0.1: c14,-21 r1.75
  circle w0.1: c21,-21 r1.75
  circle w0.1: c35,0 r1.75
  circle w0.1: c7,-21 r1.75
  circle w0.1: c21,0 r1.75
  circle w0.1: c21,-42 r1.75
  circle w0.1: c7,0 r1.75
  circle w0.1: c35,-21 r1.75
  circle w0.1: c0,0 r1.75
  circle w0.1: c35,-42 r1.75
  circle w0.1: c14,0 r1.75
  circle w0.1: c0,-21 r1.75
  circle w0.1: c28,0 r1.75
  circle w0.1: c28,-42 r1.75
  circle w0.1: c7,-42 r1.75
  circle w0.1: c28,-21 r1.75
  circle w0.1: c14,-42 r1.75
  lines w0.1: -1.75,-21 -1.75,0 ; 1.75,-21 1.75,0 ; 5.25,-21 5.25,0 ; 8.75,-21 8.75,0 ; 12.25,-21 12.25,0 ; 15.75,-21 15.75,0 ; 19.25,-21 19.25,0 ; 22.75,-21 22.75,0 ; 26.25,-21 26.25,0 ; 29.75,-21 29.75,0 ; 33.25,-21 33.25,0 ; 36.75,-21 36.75,0
  text "'.Designator'" at 18.34,-14.547 h1